# EAGLE library part MPU9250_SMD (library MPU9250)
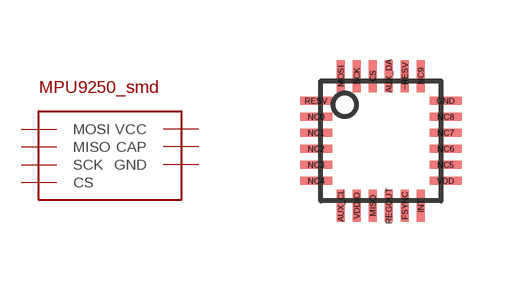
[diagram p1: symbol with the pads of MPU9250_SMD; footprint MPU9250_SMD]

Designator prefix -

## MPU9250_SMD  [MPU9250_SMD]
CS  CS
GND  GND
MISO  MISO
MOSI  MOSI
REGOUT  CAP
RESV  VCC
SCK  SCK
VDD  VCC
VDDIO  VCC
~RESV  GND

## Footprint MPU9250_SMD (pad centres in mm)
smd 0.2 x 0.8: AUX_CL -1,-1.62; AUX_DA 0.2,1.62; CS -0.2,1.62; FSYNC 0.6,-1.62; INT 1,-1.62; MISO -0.2,-1.62; MOSI -1,1.62; NC9 1,1.62; REGOUT 0.2,-1.62; SCK -0.6,1.62; VDDIO -0.6,-1.62; ~RESV 0.6,1.62
smd 0.8 x 0.2: GND 1.62,1; NC0 -1.62,0.6; NC1 -1.62,0.2; NC2 -1.62,-0.2; NC3 -1.62,-0.6; NC4 -1.62,-1; NC5 1.62,-0.6; NC6 1.62,-0.2; NC7 1.62,0.2; NC8 1.62,0.6; RESV -1.62,1; VDD 1.62,-1